# Altium integrated library 直插.IntLib: 2 symbols
Pins are listed as number, name and electrical type; pins without a type are passive.

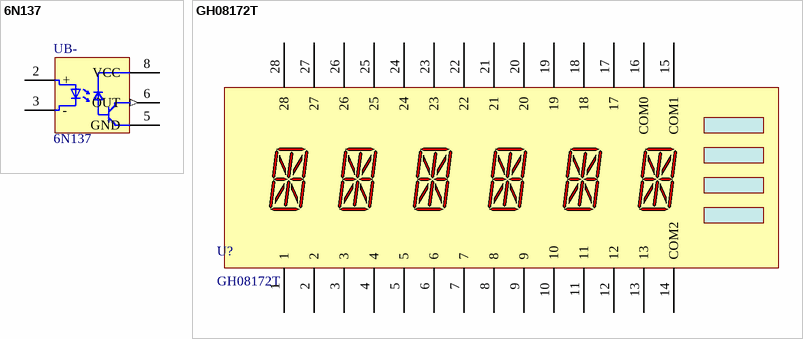
[diagram p0: symbols 6N137 to GH08172T]

## 6N137
designator UB-
footprint DIP8
pins: 2 +, 3 -, 5 GND (power), 6 OUT (out), 8 VCC (power)
2 alternate drawings of the same symbol

## GH08172T
designator U?
footprint GH08172T
pins: 1, 2, 3, 4, 5, 6, 7, 8, 9, 10, 11, 12, 13, 14 COM2, 15 COM1, 16 COM0, 17, 18, 19, 20, 21, 22, 23, 24, 25, 26, 27, 28